# EAGLE library part SD (library marius)
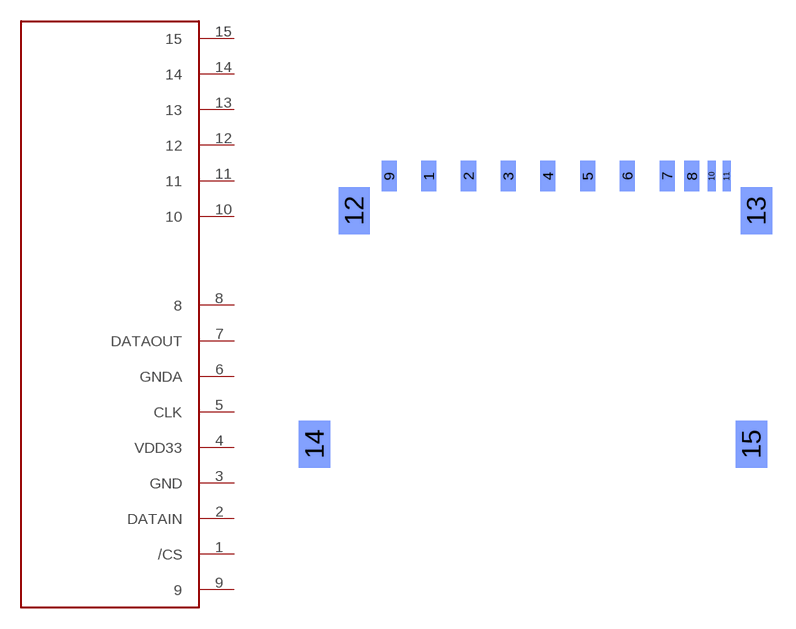
[diagram p0: symbol with the pads of SD-NIELS; footprint SD-NIELS]

Designator prefix -

## SD  [SD-NIELS]
1  /CS
2  DATAIN
3  GND
4  VDD33
5  CLK
6  GNDA
7  DATAOUT
8  8
9  9
10  10
11  11
12  12
13  13
14  14
15  15

## Footprint SD-NIELS (pad centres in mm)
smd 0.965 x 1.93 bottom: 1 -7.62,20.32; 2 -5.08,20.32; 3 -2.54,20.32; 4 0,20.32; 5 2.54,20.32; 6 5.08,20.32; 7 7.62,20.32; 8 9.207,20.32; 9 -10.16,20.32
smd 0.508 x 1.93 bottom: 10 10.477,20.32; 11 11.43,20.32
smd 2 x 3 bottom: 12 -12.383,18.098; 13 13.335,18.098; 14 -14.922,3.175; 15 13.018,3.175